# Altium footprint library SIP封装库.PcbLib: 37 footprints (part 2 of 3)
Each footprint in its own frame and in the unit in brackets; x right, y up, seen from the top. Pads: shape width x height; smd on the part's side, far side on the other; paste and mask are expansions set on the pad; w line width, h text height; cw(c..) or ccw(c..) is an arc to the next point about the centre after c.
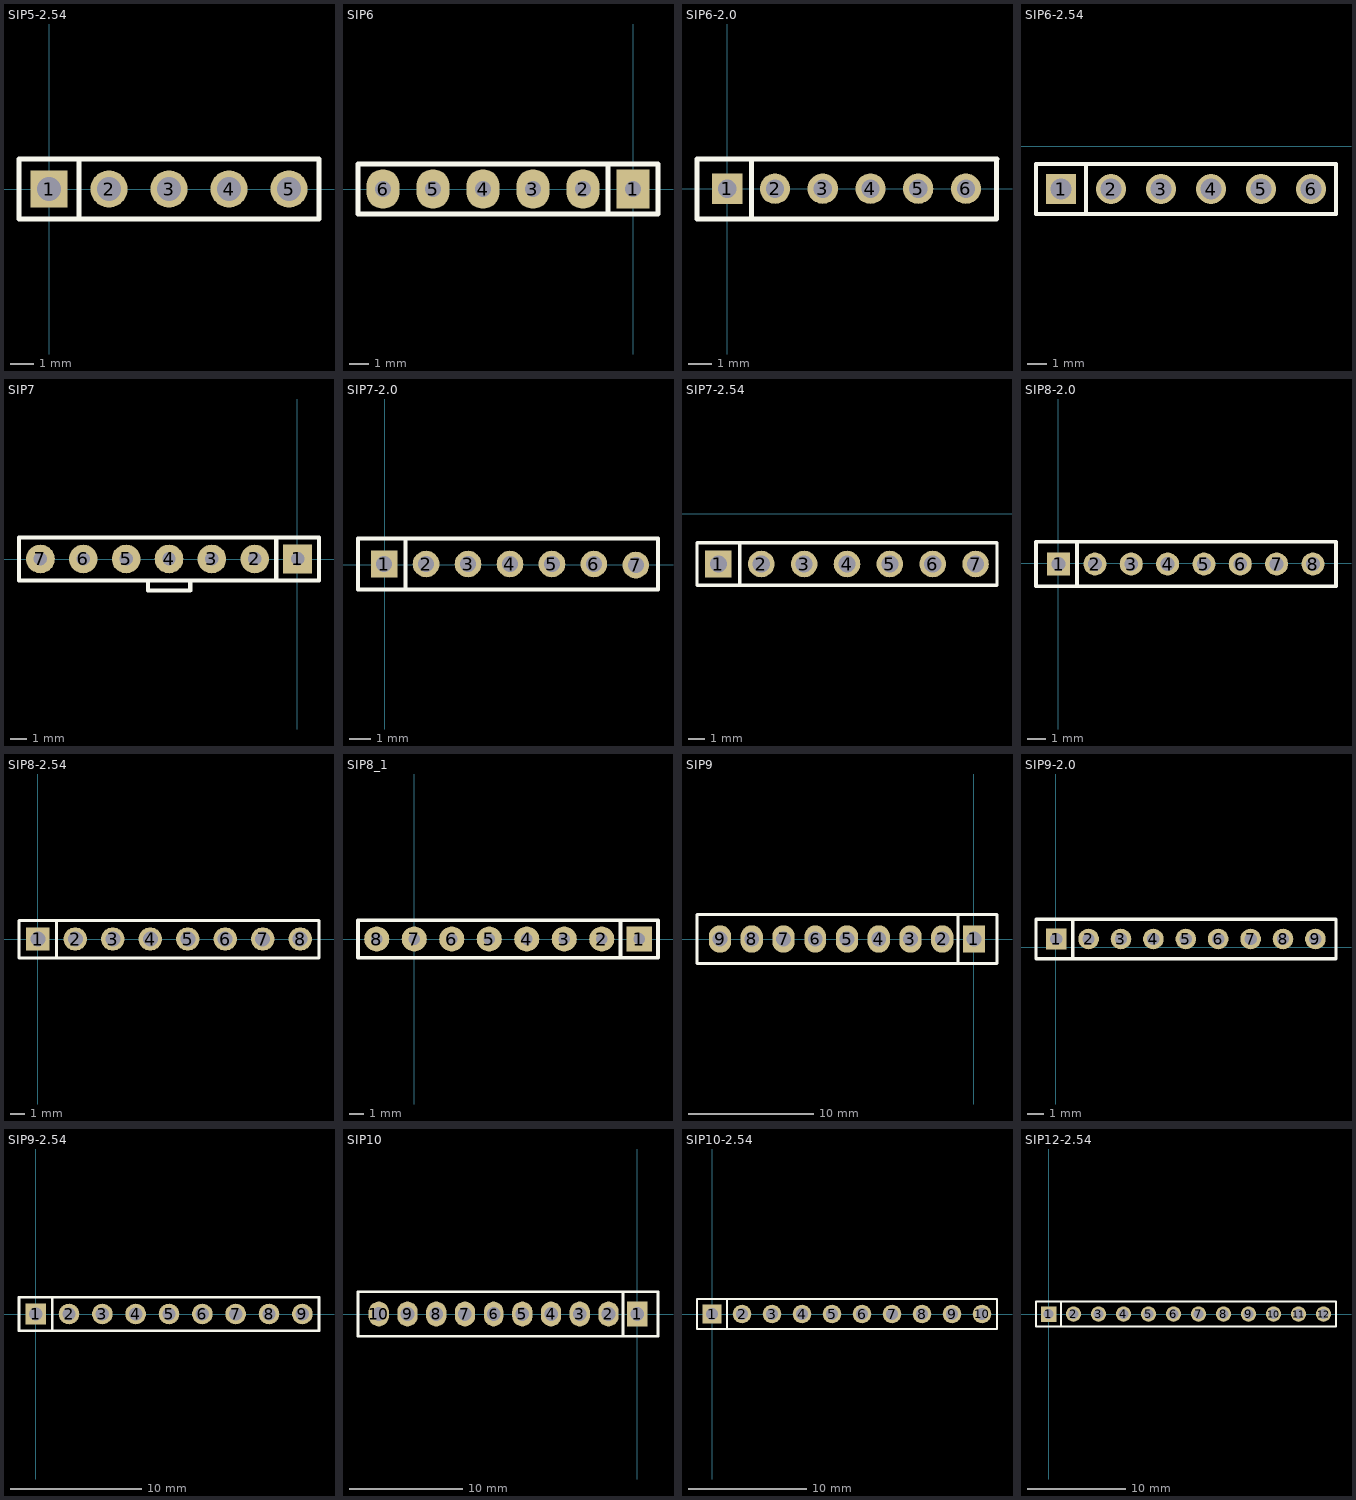
[diagram p1: the footprints below, top view; thin cyan lines are the x and y axes]

## SIP5-2.54 [mil]
pads (5):
  rect 62x62 hole 40: 1(0,0)
  round 62 hole 40: 2(100,0) 3(200,0) 4(300,0) 5(400,0)
Top Overlay:
  lines w8: 50,-50 50,50 ; -50,-50 450,-50 450,50 -50,50 -50,-50

## SIP6 [mm]
pads (6):
  rect 1.7x2 hole 0.8: 1(-0.002,0.008)
  oval 1.7x2 hole 0.8: 2(-2.542,0.008) 3(-5.082,0.008) 4(-7.622,0.008) 5(-10.162,0.008) 6(-12.702,0.008)
Top Overlay:
  lines w0.254: -1.272,-1.262 -1.272,1.278 ; -13.972,-1.262 -13.972,1.278 1.268,1.278 1.268,-1.262 -13.972,-1.262

## SIP6-2.0 [mil]
pads (6):
  rect 50x50 hole 30: 1(0,0)
  round 50 hole 30: 2(78.74,0) 3(157.48,0) 4(236.22,0) 5(314.96,0) 6(393.7,0)
Top Overlay:
  lines w8: 40,-49 40,49 ; -50,-50 444,-50 444,48 445,49 -50,49 -50,-50

## SIP6-2.54 [mil]
pads (6):
  rect 60x60 hole 42: 1(89.75,-85.93)
  round 60 hole 42: 2(189.75,-85.93) 3(289.75,-85.93) 4(389.75,-85.93) 5(489.75,-85.93) 6(589.75,-85.93)
Top Overlay:
  lines w8: 139.75,-135.93 139.75,-35.93 ; 39.74,-135.93 639.75,-135.93 639.75,-35.93 39.74,-35.93 39.74,-135.93

## SIP7 [mm]
pads (7):
  rect 1.7x1.7 hole 0.8: 1(0.012,0.009)
  round 1.7 hole 0.8: 2(-2.528,0.009) 3(-5.068,0.009) 4(-7.608,0.009) 5(-10.148,0.009) 6(-12.688,0.009) 7(-15.228,0.009)
Top Overlay:
  lines w0.254: -8.854,-1.266 -8.854,-1.856 -6.349,-1.856 -6.349,-1.261 ; -1.258,-1.261 -1.258,1.279 ; -16.498,-1.261 1.282,-1.261 1.282,1.279 -16.498,1.279 -16.498,-1.261

## SIP7-2.0 [mil]
pads (7):
  rect 50x50 hole 30: 1(-1,1)
  round 50 hole 30: 2(77.74,1) 3(156.48,1) 4(235.22,1) 5(313.96,1) 6(392.7,1) 7(471.44,-1)
Top Overlay:
  lines w8: 39,-47 39,49 ; 513,48 513,-47 -50,-47 -50,49 513,49

## SIP7-2.54 [mil]
pads (7):
  rect 62x62 hole 40: 1(120,-117)
  round 62 hole 40: 2(220,-117) 3(320,-117) 4(420,-117) 5(520,-117) 6(620,-117) 7(720,-117)
Top Overlay:
  lines w8: 170,-167 170,-67 ; 70,-167 770,-167 770,-67 70,-67 70,-167

## SIP8-2.0 [mil]
pads (8):
  rect 50x50 hole 30: 1(1,-2)
  round 50 hole 30: 2(79.74,-2) 3(158.48,-2) 4(237.22,-2) 5(315.96,-2) 6(394.7,-2) 7(473.44,-2) 8(552.18,-2)
Top Overlay:
  lines w8: 41,-50 41,46 ; 602.18,45 602.18,-50 -48,-50 -48,46 602.18,46

## SIP8-2.54 [mil]
pads (8):
  rect 62x62 hole 40: 1(0,0)
  round 62 hole 40: 2(100,0) 3(200,0) 4(300,0) 5(400,0) 6(500,0) 7(600,0) 8(700,0)
Top Overlay:
  lines w8: 50,-50 50,50 ; -50,-50 750,-50 750,50 -50,50 -50,-50

## SIP8_1 [mm]
pads (8):
  rect 1.7x1.7 hole 0.8: 1(15.24,0)
  round 1.7 hole 0.8: 2(12.7,0) 3(10.16,0) 4(7.62,0) 5(5.08,0) 6(2.54,0) 7(0,0) 8(-2.54,0)
Top Overlay:
  lines w0.254: 13.97,-1.27 13.97,1.27 ; -3.81,-1.27 16.51,-1.27 16.51,1.27 -3.81,1.27 -3.81,-1.27

## SIP9 [mm]
pads (9):
  rect 1.8x2.2 hole 1.2: 1(0,0)
  oval 1.8x2.2 hole 1.2: 2(-2.54,0) 3(-5.08,0) 4(-7.62,0) 5(-10.16,0) 7(-15.24,0) 8(-17.78,0) 9(-20.32,0)
  oval 1.7x2.2 hole 1.2: 6(-12.7,0)
Top Overlay:
  lines w0.254: -1.27,-1.97 -1.27,1.97 ; -22.16,-1.97 1.84,-1.97 1.84,1.97 -22.16,1.97 -22.16,-1.97
Bottom Overlay:
  lines w0.25: -1.27,-1.97 -1.27,1.97 ; -22.16,-1.97 -22.16,1.97 1.84,1.97 1.84,-1.97 -22.16,-1.97

## SIP9-2.0 [mil]
pads (9):
  rect 50x50 hole 30: 1(1,20)
  round 50 hole 30: 2(79.74,20) 3(158.48,20) 4(237.22,20) 5(315.96,20) 6(394.7,20) 7(473.44,20) 8(552.18,20) 9(630.92,20)
Top Overlay:
  lines w8: 41,-28 41,68 ; 680.92,67 680.92,-28 -48,-28 -48,68 680.95,68

## SIP9-2.54 [mil]
pads (9):
  rect 62x62 hole 40: 1(0,0)
  round 62 hole 40: 2(100,0) 3(200,0) 4(300,0) 5(400,0) 6(500,0) 7(600,0) 8(700,0) 9(800,0)
Top Overlay:
  lines w8: 50,-50 50,50 ; -50,-50 850,-50 850,50 -50,50 -50,-50

## SIP10 [mm]
pads (10):
  rect 1.8x2.2 hole 1.2: 1(0,0)
  oval 1.8x2.2 hole 1.2: 2(-2.54,0) 3(-5.08,0) 4(-7.62,0) 5(-10.16,0) 7(-15.24,0) 8(-17.78,0) 9(-20.32,0) 10(-22.86,0)
  oval 1.7x2.2 hole 1.2: 6(-12.7,0)
Top Overlay:
  lines w0.25: -24.7,-1.97 -24.7,1.97
  lines w0.254: -1.27,-1.97 -1.27,1.97 ; -24.7,-1.97 1.84,-1.97 1.84,1.97 -24.7,1.97 -24.7,-1.97

## SIP10-2.54 [mil]
pads (10):
  rect 62x62 hole 40: 1(0,0)
  round 62 hole 40: 2(100,0) 3(200,0) 4(300,0) 5(400,0) 6(500,0) 7(600,0) 8(700,0) 9(800,0) 10(900,0)
Top Overlay:
  lines w8: 50,-50 50,50 ; -50,-50 950,-50 950,50 -50,50 -50,-50

## SIP12-2.54 [mil]
pads (12):
  rect 62x62 hole 40: 1(0,0)
  round 62 hole 40: 2(100,0) 3(200,0) 4(300,0) 5(400,0) 6(500,0) 7(600,0) 8(700,0) 9(800,0) 10(900,0) 11(1000,0) 12(1100,0)
Top Overlay:
  lines w8: 50,-50 50,50 ; -50,-50 1150,-50 1150,50 -50,50 -50,-50